# Altium footprint library D_SUB_25x2_0.PcbLib: 1 footprints
Each footprint in its own frame and in the unit in brackets; x right, y up, seen from the top. Pads: shape width x height; smd on the part's side, far side on the other; paste and mask are expansions set on the pad; w line width, h text height; cw(c..) or ccw(c..) is an arc to the next point about the centre after c.
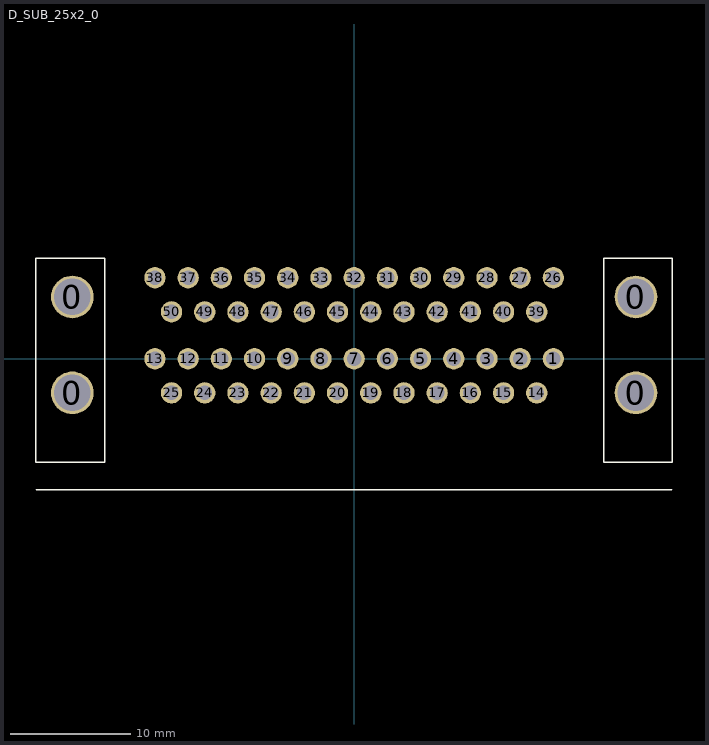
[diagram p0: the footprint, top view; thin cyan lines are the x and y axes]

## D_SUB_25x2_0 [mil] "NorComp Dual 25-pin D-Sub"
pads (54):
  round 140 hole 120: 0(-925,-112) 0(-925,203) 0(925,-112) 0(925,203)
  round 70 hole 47: 1(654,0) 2(545,0) 3(436,0) 4(327,0) 5(218,0) 6(109,0) 7(0,0) 8(-109,0) 9(-218,0) 10(-327,0) 11(-436,0) 12(-545,0) 13(-654,0) 14(599.5,-112) 15(490.5,-112) 16(381.5,-112) 17(272.5,-112) 18(163.5,-112) 19(54.5,-112) 20(-54.5,-112) 21(-163.5,-112) 22(-272.5,-112) 23(-381.5,-112) 24(-490.5,-112) 25(-599.5,-112) 26(654,266) 27(545,266) 28(436,266) 29(327,266) 30(218,266) 31(109,266) 32(0,266) 33(-109,266) 34(-218,266) 35(-327,266) 36(-436,266) 37(-545,266) 38(-654,266) 39(599.5,154) 40(490.5,154) 41(381.5,154) 42(272.5,154) 43(163.5,154) 44(54.5,154) 45(-54.5,154) 46(-163.5,154) 47(-272.5,154) 48(-381.5,154) 49(-490.5,154) 50(-599.5,154)
Top Overlay:
  lines w5: -1043,-430 1043,-430 ; -1045,-340 -1045,330 -818,330 -818,-340 -1045,-340 ; 820,-340 1044,-340 1044,330 820,330 820,-340
3D body "178-025-513.STEP": height 1251, standoff -125, extent -1044,-671 1044,330